# Altium integrated library LM7805.IntLib: 1 symbol
Pins are listed as number, name and electrical type; pins without a type are passive.

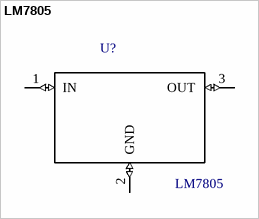
[diagram p0: symbol LM7805]

## LM7805
designator U?
MF: Texas Instruments; SnapEDA_Link: https://www.snapeda.com/parts/LM7805/Texas%20Instruments/view-part/?ref=snap; MP: LM7805; Availability: Unavailable; Package: TO-220 Texas Instruments; Price: None; Value: *
footprint *TO220
pins: 1 IN (io), 2 GND (io), 3 OUT (io)